# Altium footprint library PcbLib1.PcbLib: 18 footprints (part 2 of 2)
Each footprint in its own frame and in the unit in brackets; x right, y up, seen from the top. Pads: shape width x height; smd on the part's side, far side on the other; paste and mask are expansions set on the pad; w line width, h text height; cw(c..) or ccw(c..) is an arc to the next point about the centre after c.
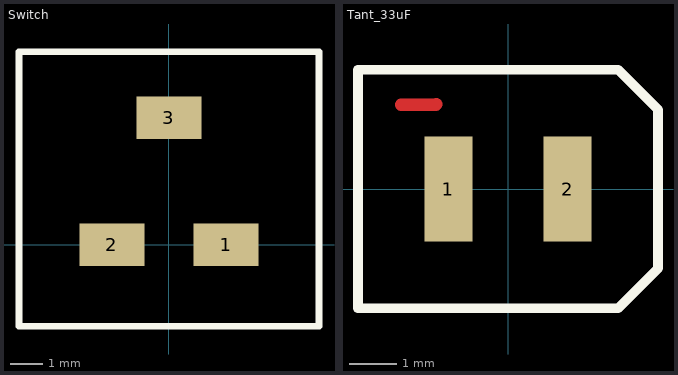
[diagram p1: the footprints below, top view; thin cyan lines are the x and y axes]

## Switch [mm]
pads (3):
  rect 2x1.3 smd: 1(1.75,0) 2(-1.75,0) 3(0,3.9)
Top Overlay:
  lines w0.2: -4.6,-2.5 -4.6,0 -4.6,5.92 4.6,5.92 4.6,-2.5 -4.6,-2.5

## Tant_33uF [mm] "Tantalum"
pads (2):
  rect 1x2.2 smd: 1(-1.25,0) 2(1.25,0)
Top Layer:
  lines w0.254: -2.248,1.768 -1.518,1.768 ccw(c-1.518,1.779) -1.508,1.779
Top Overlay:
  lines w0.2: -3.15,-2.5 2.317,-2.5 3.15,-1.667 3.15,1.667 2.317,2.5 -3.15,2.5 -3.15,0 -3.15,-2.5